# Altium footprint library PCB12.PcbLib: 4 footprints
Each footprint in its own frame and in the unit in brackets; x right, y up, seen from the top. Pads: shape width x height; smd on the part's side, far side on the other; paste and mask are expansions set on the pad; w line width, h text height; cw(c..) or ccw(c..) is an arc to the next point about the centre after c.
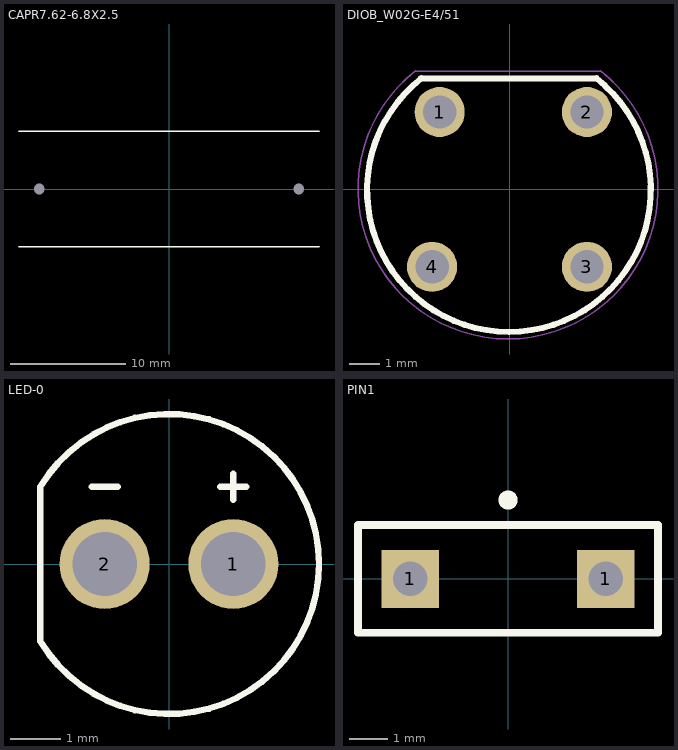
[diagram p0: the footprints below, top view; thin cyan lines are the x and y axes]

## CAPR7.62-6.8X2.5 [mm] "Capacitor, MF, Thru-Hole, Dipped Radial; Body 6.8 x 2.5 mm (WxT) Pin Spacing 7.62 mm (typ)"
height 6
pads (2):
  round 0 / inner round 0 / far side oval 2.54x2.159 hole 0.914 unplated: 1(-11.25,0) 2(11.25,0)
Top Overlay:
  lines w0.152: -13,-5 13,-5 ; -13,5 13,5
3D body "Capacitor.STEP": height 22, standoff -4, extent -12.873,-5.75 13.127,5.75

## DIOB_W02G-E4/51 [mm]
pads (4):
  round 1.65 hole 1.1: 1(-2.3,2.55) 2(2.55,2.55) 3(2.55,-2.55) 4(-2.55,-2.55)
Top Overlay:
  lines w0.2: -2.93,3.655 2.81,3.655 ; -2.895,3.662 ccw(c-0.019,-0.02) 2.858,3.662
Mechanical 1:
  lines w0.05: -3.1,3.9 3,3.9 ; -3.091,3.907 ccw(c-0.05,0.015) 2.991,3.907
3D body "Bridge.STEP": height 4.83, standoff -3.5, extent -4.548,-4.675 4.802,3.655

## LED-0 [mil] "LED; 2 Leads"
pads (2):
  round 70 hole 50: 1(50,0) 2(-50,0)
Top Overlay:
  lines w5: -60,60 -40,60 ; 40,60 60,60 ; 50,50 50,70 ; -100,-60 ccw(c0,0) -100,60 -100,-60
3D body "LED_blue.STEP": height 344.75, standoff -237.93, extent -96.07,-118.49 117.32,118.5

## PIN1 [mm]
pads (2):
  rect 1.5x1.5 hole 0.9: 1(-2.54,0) 1(2.54,0)
Top Overlay:
  circle w0.25: c0,2.05 r0.125
  lines w0.2: -3.9,-1.4 -3.9,1.4 3.9,1.4 3.9,-1.4 -3.9,-1.4